# Altium schematic symbol library RPSLib_Microwave.SchLib: 4 symbols
Pins are listed as number, name and electrical type; pins without a type are passive.

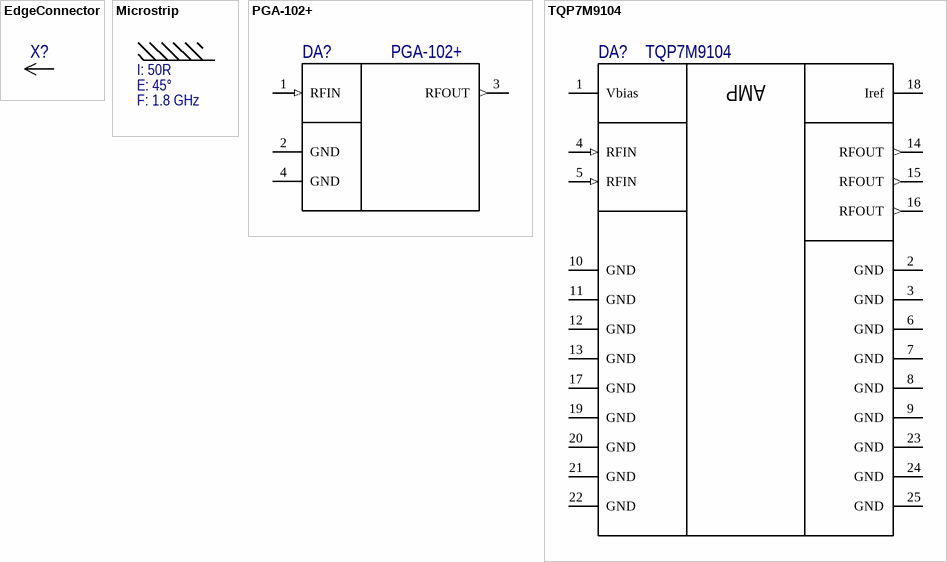
[diagram p0: symbols EdgeConnector to TQP7M9104]

## EdgeConnector
designator X?  (value not drawn)  (no BOM)
Полосок для подключения СВЧ контакта
footprint Edge 704 (Полосок 0,704 мм)
pins: 1 S (power)

## Microstrip
designator ?  F: 1.8 GHz  E: 45°  I: 50R  (hidden comment: Microstrip)  (graphical)
УГО микрополоска

## PGA-102+
designator DA?
MonolithicAmplifier, UltraHighDynamicRange, 50ohm, 0.05 to 6 GHz; Manufacturer: Mini-Circuits; Supplier 1: Digikey; Manufacturer Part Number: PGA-102+; RoHS: Yes; Category: RF Amplifiers; Stock 1: 4202; Pricing 1: 1=3,25, 10=3,1, 20=2,952, 50=2,112, 100=2,028, 200=1,944, 500=1,86 (USD); RoHS Compliant: Yes; Supplier Part Number 1: 3157-PGA-102+CT-ND
footprint SOT89-DF782-160P410X160-3N (SOT89, 3-Leads, Body 4,50x2,45mm, Pitch 1,60mm, Lead Span 4,1mm, IPC Medium Density)
pins: 1 RFIN (in), 2 GND (power), 3 RFOUT (out), 4 GND (power)

## TQP7M9104
designator DA?
RF Amp Single Driver Amp 2.2GHz 5.25V 24-Pin QFN EP; Manufacturer: Qorvo; Supplier 1: Mouser; Manufacturer Part Number: TQP7M9104; RoHS: Yes; Category: RF Amplifiers; Stock 1: 3113; Pricing 1: 1=17,08, 10=17,08, 50=12,4, 100=10,06, 1000=6,78, 10000=6,65 (USD); Supplier Part Number 1: 772-TQP7M9104
footprint QFN50P400X400X85_HS-25N (QFN, 24-Leads, Body 4,00x4,00mm, Pitch 0,50mm, Thermal Pad 2,70x2,70mm, IPC Medium Density)
pins: 1 Vbias, 2 GND, 3 GND, 4 RFIN (in), 5 RFIN (in), 6 GND, 7 GND, 8 GND, 9 GND, 10 GND, 11 GND, 12 GND, 13 GND, 14 RFOUT (out), 15 RFOUT (out), 16 RFOUT (out), 17 GND, 18 Iref, 19 GND, 20 GND, 21 GND, 22 GND, 23 GND, 24 GND, 25 GND
text: AMP